# EAGLE library part GENERIC-IC-6PIN (library personal)
Represents a generic IC with 6 pins. Use this with packages that have standardized layouts such as TSOT-6 or DIP-6, etc.
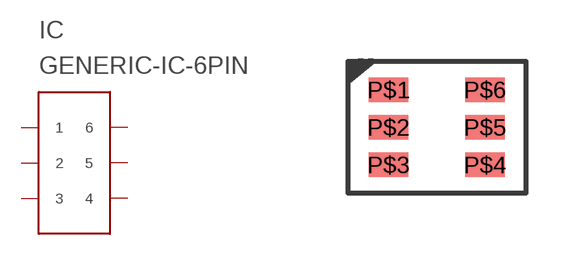
[diagram p0: symbol with the pads of TSOT-6; footprint TSOT-6]

Designator prefix IC

## GENERIC-IC-6PIN  [TSOT-6]
P$1  1  pas
P$2  2  pas
P$3  3  pas
P$4  4  pas
P$5  5  pas
P$6  6  pas

## Footprint TSOT-6 (pad centres in mm)
smd 0.991 x 0.61: P$1 0,0.94; P$2 0,0; P$3 0,-0.94; P$4 2.413,-0.94; P$5 2.413,0; P$6 2.413,0.94